# Altium schematic symbol library Schematic.SchLib: 5 symbols
Pins are listed as number, name and electrical type; pins without a type are passive.

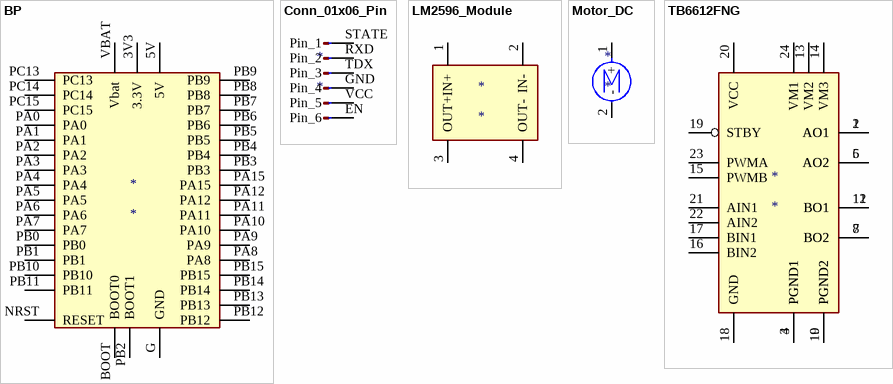
[diagram p0: symbols BP to TB6612FNG]

## BP
designator *
pins: 3V3 3.3V, 5V, BOOT BOOT0, G GND, NRST RESET, PA0, PA1, PA2, PA3, PA4, PA5, PA6, PA7, PA8, PA9, PA10, PA11, PA12, PA15, PB0, PB1, PB2 BOOT1, PB3, PB4, PB5, PB6, PB7, PB8, PB9, PB10, PB11, PB12, PB13, PB14, PB15, PC13, PC14, PC15, VBAT Vbat

## Conn_01x06_Pin
designator *
pins: EN Pin_6, GND Pin_4, RXD Pin_2, STATE Pin_1, TDX Pin_3, VCC Pin_5

## LM2596_Module
designator *
pins: 1 IN+, 2 IN-, 3 OUT+, 4 OUT-

## Motor_DC
designator *
pins: 1 +, 2 -

## TB6612FNG
designator *
pins: 1 AO1, 2 AO1, 3 PGND1, 4 PGND1, 5 AO2, 6 AO2, 7 BO2, 8 BO2, 9 PGND2, 10 PGND2, 11 BO1, 12 BO1, 13 VM2, 14 VM3, 15 PWMB, 16 BIN2, 17 BIN1, 18 GND, 19 STBY, 20 VCC, 21 AIN1, 22 AIN2, 23 PWMA, 24 VM1